# Altium schematic symbol library SchLib.SCHLIB: 82 symbols (part 2 of 2)
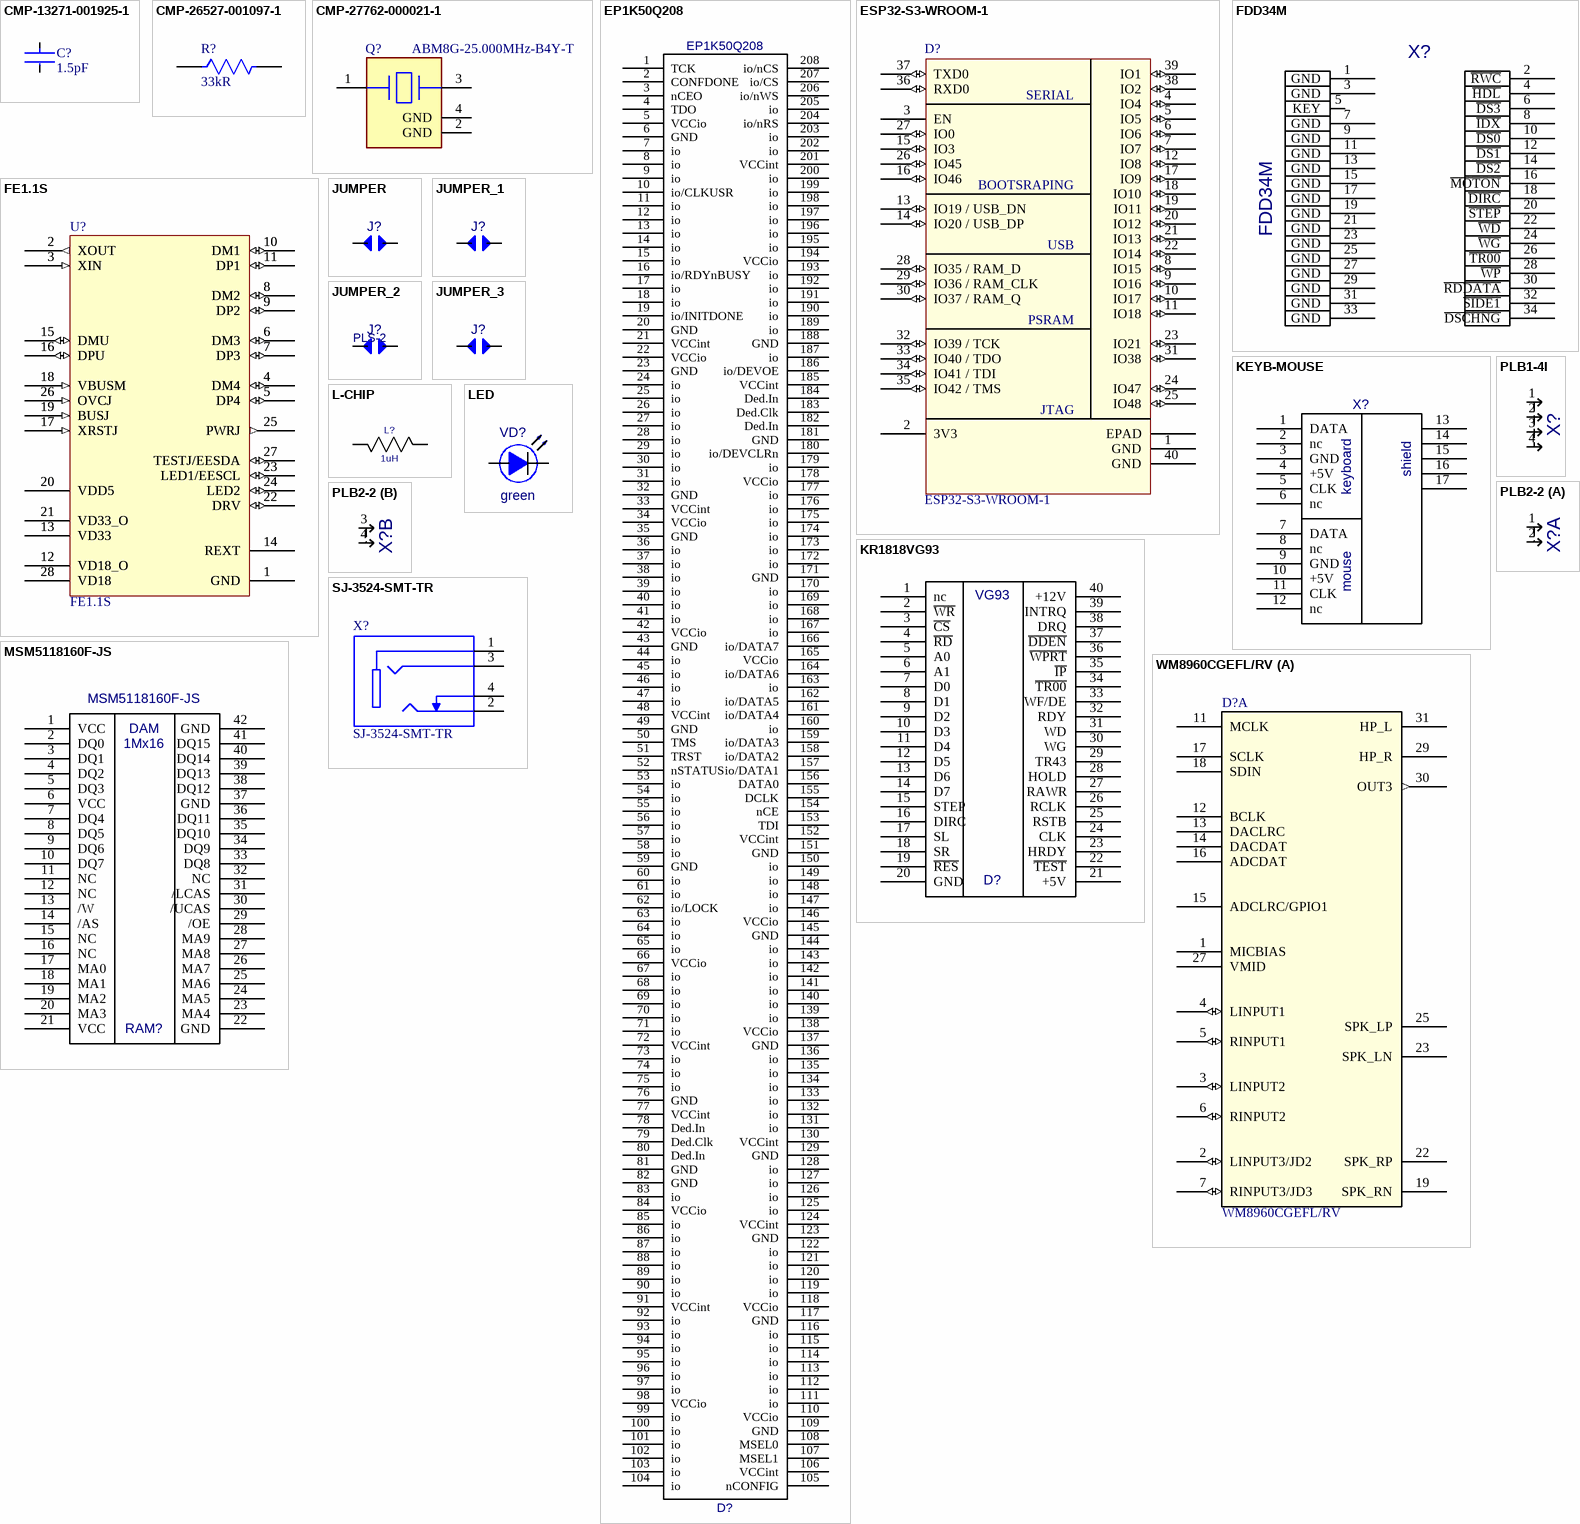
[diagram p4: symbols CMP-13271-001925-1 to WM8960CGEFL/RV]

## FE1.1S
designator U?
USB 2.0 HIGH SPEED 4-PORT HUB CONTROLLER; Manufacturer: Terminus Technology Inc; value: FE1.1S; Case/Package: SSOP-28; Category: IC
footprint TSOP64P600X160-28L (TSOP, 28-Leads, Body 9,90x3,90mm, Pitch 0,64mm, IPC High Density)
pins: 1 GND (power) "Ground", 1 GND (power) "Ground", 2 XOUT (out) "12 MHz Crystal Oscillator output", 2 XOUT (out) "12 MHz Crystal Oscillator output", 3 XIN (in) "12 MHz Crystal Oscillator input.", 3 XIN (in) "12 MHz Crystal Oscillator input.", 4 DM4 (io) "The D- pin of the 4th Downstream Facing Port.", 4 DM4 (io) "The D- pin of the 4th Downstream Facing Port.", 5 DP4 (io) "The D+ pin of the 4th Downstream Facing Port", 5 DP4 (io) "The D+ pin of the 4th Downstream Facing Port", 6 DM3 (io) "The D- pin of the 3rd Downstream Facing Port.", 6 DM3 (io) "The D- pin of the 3rd Downstream Facing Port.", 7 DP3 (io) "The D+ pin of the 3rd Downstream Facing Port.", 7 DP3 (io) "The D+ pin of the 3rd Downstream Facing Port.", 8 DM2 (io) "The D- pin of the 2nd Downstream Facing Port.", 8 DM2 (io) "The D- pin of the 2nd Downstream Facing Port.", 9 DP2 (io) "The D+ pin of the 2nd Downstream Facing Port.", 9 DP2 (io) "The D+ pin of the 2nd Downstream Facing Port.", 10 DM1 (io) "The D- pin of the 1st Downstream Facing Port.", 10 DM1 (io) "The D- pin of the 1st Downstream Facing Port.", 11 DP1 (io) "The D+ pin of the 1st Downstream Facing Port.", 11 DP1 (io) "The D+ pin of the 1st Downstream Facing Port.", 12 VD18_O (power) "1.8V power output from 3.3V→1.8V integrated regulator – a 10μF decoupling capacitor is required.", 12 VD18_O (power) "1.8V power output from 3.3V→1.8V integrated regulator – a 10μF decoupling capacitor is required.", 13 VD33 (power) "3.3V power input for 3.3V→1.8V integrated regulator.", 13 VD33 (power) "3.3V power input for 3.3V→1.8V integrated regulator.", 14 REXT (power) "A 2.7KΩ (± 1%) resister should be connected to VSS to provide internal bias reference.", 14 REXT (power) "A 2.7KΩ (± 1%) resister should be connected to VSS to provide internal bias reference.", 15 DMU (io) "The D- pin of the Upstream Facing Port.", 15 DMU (io) "The D- pin of the Upstream Facing Port.", 16 DPU (io) "The D+ pin of the Upstream Facing Port.", 16 DPU (io) "The D+ pin of the Upstream Facing Port.", 17 XRSTJ (in) "External Reset, active low, is an optional source of chip reset signal, beside the build-in Power-On-Reset. The minimum low pulse width is 10 μs.", 17 XRSTJ (in) "External Reset, active low, is an optional source of chip reset signal, beside the build-in Power-On-Reset. The minimum low pulse width is 10 μs.", 18 VBUSM (in) "The VBUS Monitor of upstream facing port.", 18 VBUSM (in) "The VBUS Monitor of upstream facing port.", 19 BUSJ (in) "Bus power indicator: 0 – Bus Powered; 1 – Self Powered.", 19 BUSJ (in) "Bus power indicator: 0 – Bus Powered; 1 – Self Powered.", 20 VDD5 (power) "5V power input for integrated 5V→3.3V regulator.", 20 VDD5 (power) "5V power input for integrated 5V→3.3V regulator.", 21 VD33_O (power) "3.3V power output from 5V→3.3V integrated regulator – a 10μF decoupling capacitor is required.", 21 VD33_O (power) "3.3V power output from 5V→3.3V integrated regulator – a 10μF decoupling capacitor is required.", 22 DRV (io) "LED Drive Control", 22 DRV (io) "LED Drive Control", 23 LED1/EESCL (io) "Port 1 and Port 3 Enabled Indicator (LED) Control, and external Serial EEPROM Clock", 23 LED1/EESCL (io) "Port 1 and Port 3 Enabled Indicator (LED) Control, and external Serial EEPROM Clock", 24 LED2 (io) "Port 2 and Port 4 Enabled Indicator (LED) Control", 24 LED2 (io) "Port 2 and Port 4 Enabled Indicator (LED) Control", 25 PWRJ (out) "Downstream Device Power Enable, active low, for Ganged Power Switching.", 25 PWRJ (out) "Downstream Device Power Enable, active low, for Ganged Power Switching.", 26 OVCJ (in) "Over Current Indicator, active low, for Global Over-Current", 26 OVCJ (in) "Over Current Indicator, active low, for Global Over-Current", 27 TESTJ/EESDA (io) "Test Mode Enable, active low with internal pull-up, and external Serial EEPROM Data/Address.", 27 TESTJ/EESDA (io) "Test Mode Enable, active low with internal pull-up, and external Serial EEPROM Data/Address.", 28 VD18 (power) "1.8V power input.", 28 VD18 (power) "1.8V power input."

## JUMPER
designator J?  (value not drawn)
HLT->~IP; Value: PLS-2; Case/Package: PLS-2; Category: Connector
footprint JUMPER
footprint JUMPER_JUMPER(Primary)
pins: 0 1, 1 2

## JUMPER_1
designator J?, comment JUMPER  (value not drawn)
12V enabled; Value: PLS-2; Case/Package: PLS-2; Category: Connector
footprint JUMPER
pins: 0 1, 0 1, 1 2, 1 2

## JUMPER_2
designator J?, comment value PLS-2  (hidden comment: JUMPER)
Soft Reset Key; Case/Package: PLS-2; Category: Connector
footprint JUMPER
pins: 0 1, 1 2

## JUMPER_3
designator J?, comment JUMPER  (value not drawn)
Hard Reset Key; Value: PLS-2; Case/Package: PLS-2; Category: Connector
footprint JUMPER
pins: 0 1, 1 2

## KEYB-MOUSE
designator X?  (value not drawn)
Value: KEYB-MOUSE; Case/Package: Stacked Mini DIN; Category: Connector
footprint MDD-6FR
pins: 1 DATA, 2 nc, 3 GND, 4 +5V, 5 CLK, 6 nc, 7 DATA, 8 nc, 9 GND, 10 +5V, 11 CLK, 12 nc, 13 shield, 14 shield, 15 shield, 16 shield, 17 shield
text: keyboard; mouse

## KR1818VG93
designator D?  (value not drawn)
Value: KR1818VG93; Case/Package: DIP-40; Category: IC
footprint DIP40
pins: 1 nc, 2 ~{WR}, 3 ~{CS}, 4 ~{RD}, 5 A0, 6 A1, 7 D0, 8 D1, 9 D2, 10 D3, 11 D4, 12 D5, 13 D6, 14 D7, 15 STEP, 16 DIRC, 17 SL, 18 SR, 19 ~{RES}, 20 GND, 21 +5V, 22 ~{TEST}, 23 HRDY, 24 CLK, 25 RSTB, 26 RCLK, 27 RAWR, 28 HOLD, 29 TR43, 30 WG, 31 WD, 32 RDY, 33 WF/DE, 34 ~{TR00}, 35 ~{IP}, 36 ~{WPRT}, 37 ~{DDEN}, 38 DRQ, 39 INTRQ, 40 +12V
text: VG93

## L-CHIP
designator L?  value 1uH  (hidden comment: L-CHIP)
Case/Package: 0805; Category: Inductor
footprint L-CHIP
pins: 1, 2

## LED
designator VD?  value green  (hidden comment: LED)
Light Emitting Diode; Category: Diode
footprint LED100_LED(Primary)
pins: A, K

## MSM5118160F-JS
designator RAM?
Value: MSM5118160F-JS; Case/Package: SOJ-42; Category: IC
footprint SOJ42
pins: 1 VCC, 2 DQ0, 3 DQ1, 4 DQ2, 5 DQ3, 6 VCC, 7 DQ4, 8 DQ5, 9 DQ6, 10 DQ7, 11 NC, 12 NC, 13 /W, 14 /AS, 15 NC, 16 NC, 17 MA0, 18 MA1, 19 MA2, 20 MA3, 21 VCC, 22 GND, 23 MA4, 24 MA5, 25 MA6, 26 MA7, 27 MA8, 28 MA9, 29 /OE, 30 /UCAS, 31 /LCAS, 32 NC, 33 DQ8, 34 DQ9, 35 DQ10, 36 DQ11, 37 GND, 38 DQ12, 39 DQ13, 40 DQ14, 41 DQ15, 42 GND
text: DAM; 1Mx16

## PLB1-4I
designator X?  (value not drawn)
Value: PLS-4; Case/Package: PLS-4; Category: Connector
footprint PLB1-4I
pins: 1 I/O1, 2 I/O2, 3 I/O3, 4 I/O4

## PLB2-2
designator X?  (value not drawn)
Value: PLD-4; Case/Package: PLD-4; Category: Connector
footprint PLB2-2
part A pins: 1, 2
part B pins: 3 1, 4 2

## SJ-3524-SMT-TR
designator X?
Connector; Case/Package: Stereo jack smd; Category: Connector; Value: SJ-3524-SMT-TR
footprint SJ-3524-SMT-TR
pins: 1, 2, 3, 4

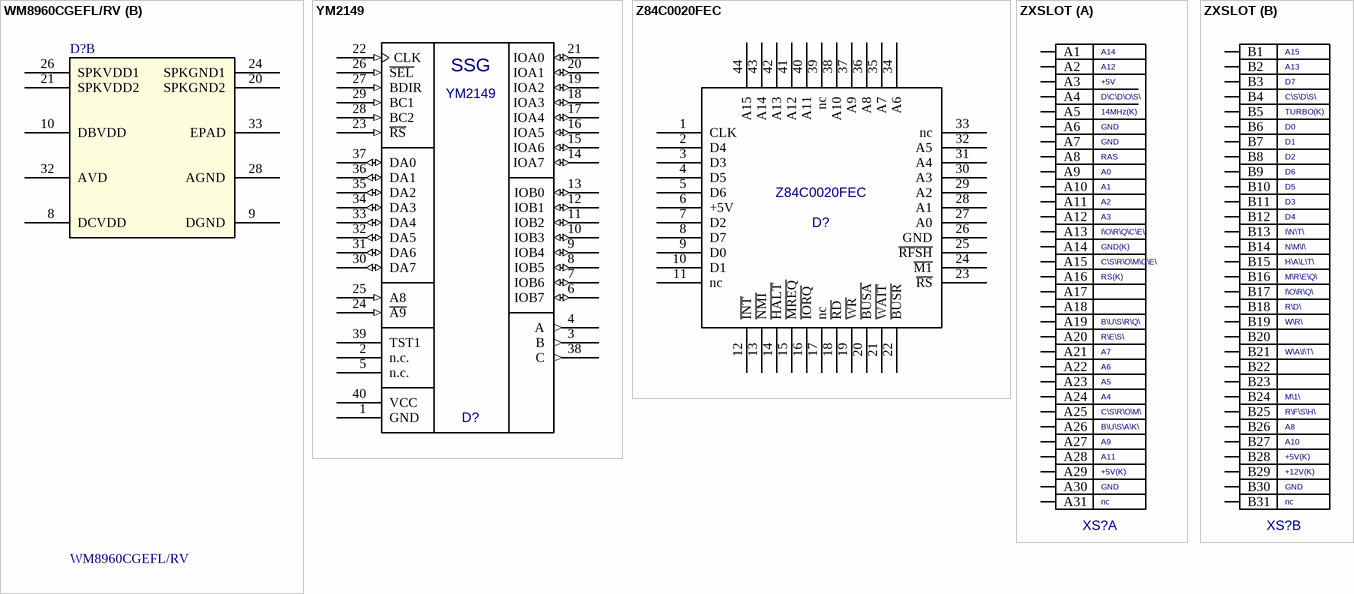
[diagram p3: symbols WM8960CGEFL/RV to ZXSLOT]

## WM8960CGEFL/RV
designator D?
Stereo CODEC with 1W Stereo Class-D speaker Drivers; value: WM8960CGEFL/RV; Case/Package: QNF-32; Category: IC
footprint QFN50P500X500X90_HS-33M (QFN, 32-Leads, Body 5,00x5,00mm, Pitch 0,50mm, Thermal Pad 3,45x3,45mm, IPC Low Density)
part A pins: 1 MICBIAS, 2 LINPUT3/JD2 (io), 3 LINPUT2 (io), 4 LINPUT1 (io), 5 RINPUT1 (io), 6 RINPUT2 (io), 7 RINPUT3/JD3 (io), 11 MCLK, 12 BCLK, 13 DACLRC, 14 DACDAT, 15 ADCLRC/GPIO1, 16 ADCDAT, 17 SCLK, 18 SDIN, 19 SPK_RN, 22 SPK_RP, 23 SPK_LN, 25 SPK_LP, 27 VMID, 29 HP_R, 30 OUT3 (out), 31 HP_L
part B pins: 8 DCVDD (power), 9 DGND, 10 DBVDD (power), 20 SPKGND2, 21 SPKVDD2 (power), 24 SPKGND1, 26 SPKVDD1 (power), 28 AGND, 32 AVD, 33 EPAD

## YM2149
designator D?
Value: YM2149; Case/Package: DIP-40; Category: IC
footprint DIP40
pins: 1 GND (power), 2 n.c., 3 B (out), 4 A (out), 5 n.c., 6 IOB7 (io), 7 IOB6 (io), 8 IOB5 (io), 9 IOB4 (io), 10 IOB3 (io), 11 IOB2 (io), 12 IOB1 (io), 13 IOB0 (io), 14 IOA7 (io), 15 IOA6 (io), 16 IOA5 (io), 17 IOA4 (io), 18 IOA3 (io), 19 IOA2 (io), 20 IOA1 (io), 21 IOA0 (io), 22 CLK (in), 23 ~{RS} (in), 24 ~{A9} (in), 25 A8 (in), 26 ~{SEL} (in), 27 BDIR (in), 28 BC2 (in), 29 BC1 (in), 30 DA7 (io), 31 DA6 (io), 32 DA5 (io), 33 DA4 (io), 34 DA3 (io), 35 DA2 (io), 36 DA1 (io), 37 DA0 (io), 38 C (out), 39 TST1, 40 VCC (power)
text: SSG

## Z84C0020FEC
designator D?
Value: Z84C0020FEC; Case/Package: QFP-44; Category: IC
footprint QFP44X8
pins: 1 CLK, 2 D4, 3 D3, 4 D5, 5 D6, 6 +5V, 7 D2, 8 D7, 9 D0, 10 D1, 11 nc, 12 ~{INT}, 13 ~{NMI}, 14 ~{HALT}, 15 ~{MREQ}, 16 ~{IORQ}, 17 nc, 18 ~{RD}, 19 ~{WR}, 20 ~{BUSA}, 21 ~{WAIT}, 22 ~{BUSR}, 23 ~{RS}, 24 ~{M1}, 25 ~{RFSH}, 26 GND, 27 A0, 28 A1, 29 A2, 30 A3, 31 A4, 32 A5, 33 nc, 34 A6, 35 A7, 36 A8, 37 A9, 38 A10, 39 nc, 40 A11, 41 A12, 42 A13, 43 A14, 44 A15

## ZXSLOT
designator XS?  (value not drawn)
Value: ZXSLOT; Case/Package: SL62; Category: Connector
footprint SLOT62_ZXSLOT(Primary)
part A pins: A1, A2, A3, A4, A5, A6, A7, A8, A9, A10, A11, A12, A13, A14, A15, A16, A17, A18, A19, A20, A21, A22, A23, A24, A25, A26, A27, A28, A29, A30, A31
part B pins: B1, B2, B3, B4, B5, B6, B7, B8, B9, B10, B11, B12, B13, B14, B15, B16, B17, B18, B19, B20, B21, B22, B23, B24, B25, B26, B27, B28, B29, B30, B31
part A text: +5V; D\C\D\O\S\; 14MHz(K); GND; RAS; A0; I\O\R\Q\C\E\; GND(K); C\S\R\O\M\C\E\; RS(K); B\U\S\R\Q\; R\E\S\; C\S\R\O\M\; B\U\S\A\K\; +5V(K); nc
part B text: D7; C\S\D\S\; TURBO(K); D0; D1; D2; D6; D5; D3; D4; I\N\T\; N\M\I\; H\A\L\T\; M\R\E\Q\; I\O\R\Q\; R\D\; W\R\; W\A\I\T\; M\1\; R\F\S\H\; +5V(K); +12V(K); GND; nc